# Altium footprint library PcbLib1.PcbLib: 44 footprints (part 1 of 3)
Each footprint in its own frame and in the unit in brackets; x right, y up, seen from the top. Pads: shape width x height; smd on the part's side, far side on the other; paste and mask are expansions set on the pad; w line width, h text height; cw(c..) or ccw(c..) is an arc to the next point about the centre after c.
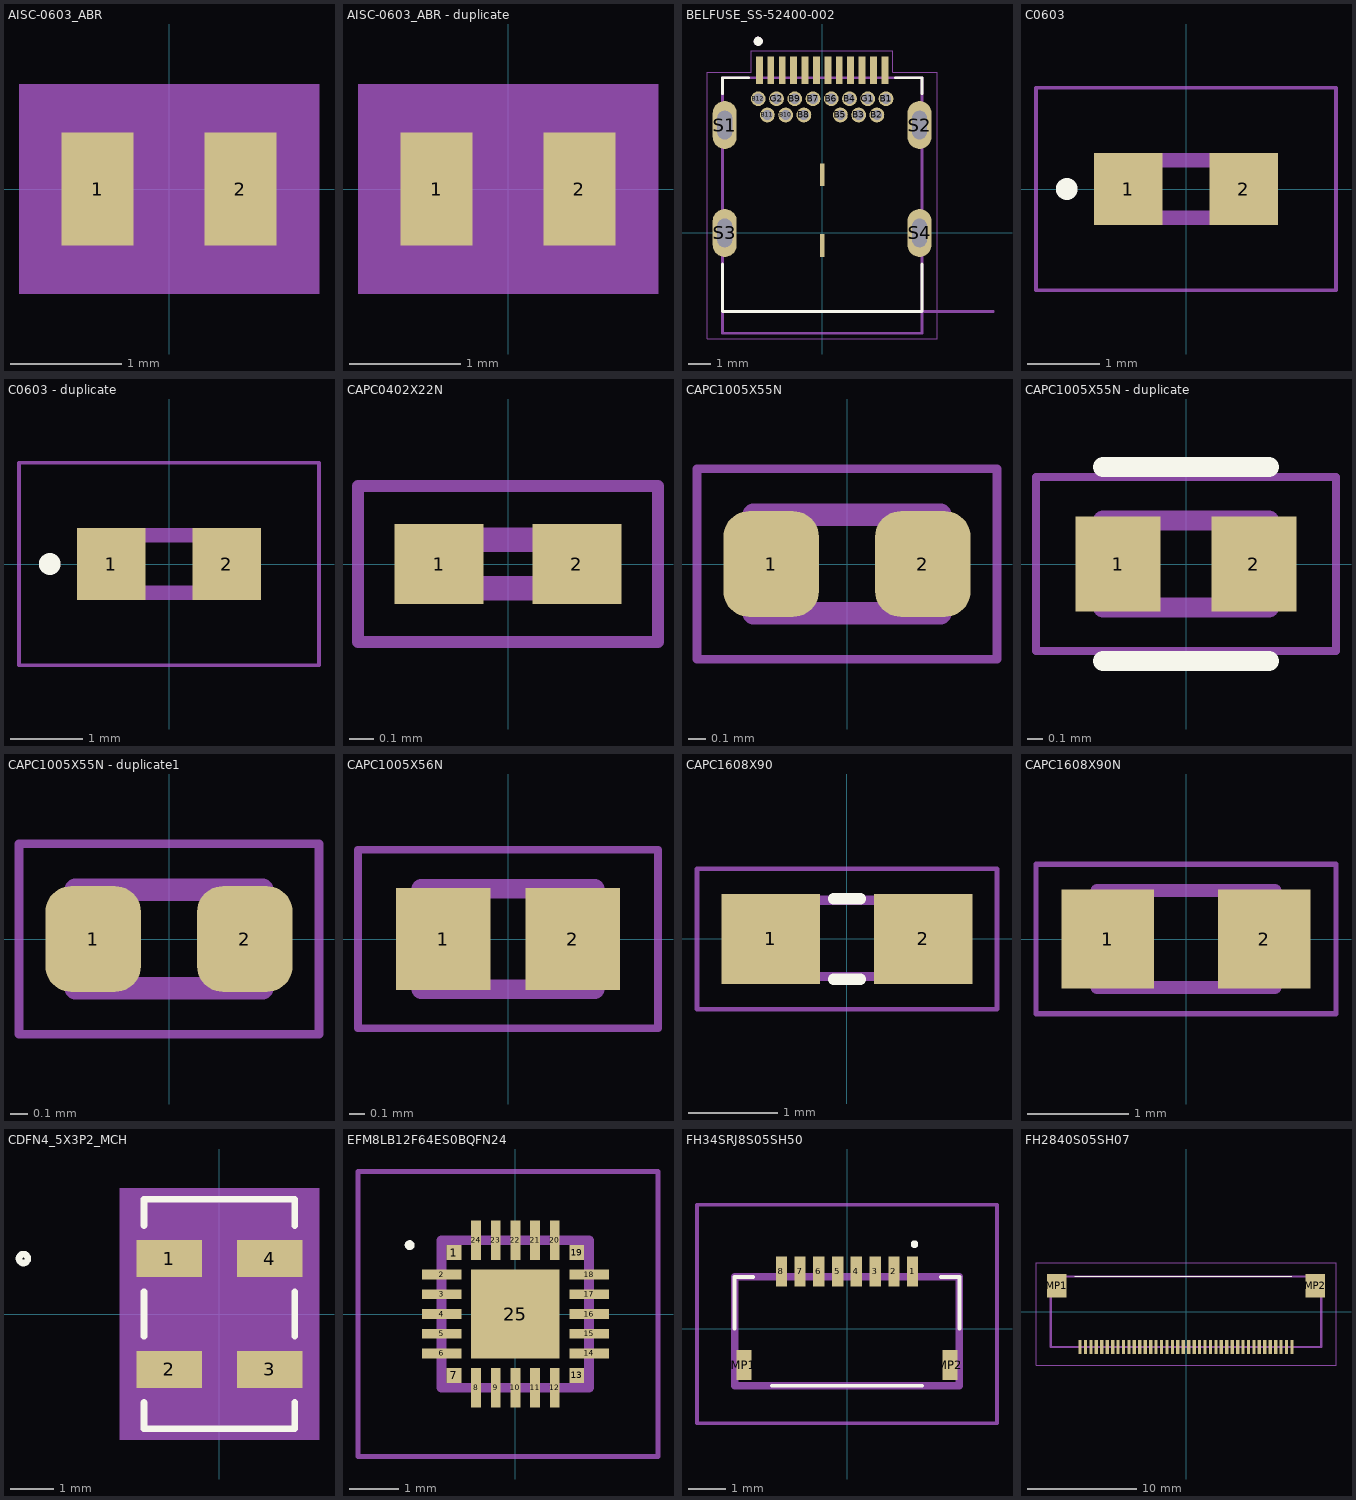
[diagram p0: the footprints below, top view; thin cyan lines are the x and y axes]

## AISC-0603_ABR [mil]
pads (2):
  rect 25.5x40 smd paste+0 mask+0: 1(-25.25,0) 2(25.25,0)
Top Assembly:
  region: 53,-37 -53,-37 -53,37 53,37
Mechanical 13:
  lines w1: -35.5,-22 -35.5,22 35.5,22 35.5,-22 -35.5,-22
Mechanical 15:
  region: -48,-30 -48,30 -32.5,32 32.5,32 48,30 48,-30 32.5,-32 -32.5,-32
  lines w6: -48,-30 -32.5,-32 32.5,-32 48,-30 48,30 32.5,32 -32.5,32 -48,30 -48,-30
3D body "AISC-0603_ABR.step": height 52.01, standoff 0, extent -47.48,-22.01 47.48,22.01

## AISC-0603_ABR - duplicate [mil]
pads (2):
  rect 25.5x40 smd paste+0 mask+0: 1(-25.25,0) 2(25.25,0)
Top Assembly:
  region: 53,-37 -53,-37 -53,37 53,37
Mechanical 13:
  lines w1: -35.5,-22 35.5,-22 35.5,22 -35.5,22 -35.5,-22
Mechanical 15:
  region: -48,-30 -48,30 -32.5,32 32.5,32 48,30 48,-30 32.5,-32 -32.5,-32
  lines w6: -48,-30 -48,30 -32.5,32 32.5,32 48,30 48,-30 32.5,-32 -32.5,-32 -48,-30
3D body "AISC-0603_ABR.step": height 52.01, standoff 0, extent -47.48,-22.01 47.48,22.01

## BELFUSE_SS-52400-002 [mm]
pads (32):
  rect 0.3x1.2 smd: A1(-2.75,7.13) A2(-2.25,7.13) A3(-1.75,7.13) A4(-1.25,7.13) A5(-0.75,7.13) A6(-0.25,7.13) A7(0.25,7.13) A8(0.75,7.13) A9(1.25,7.13) A10(1.75,7.13) A11(2.25,7.13) A12(2.75,7.13)
  round 0.65 hole 0.45: B1(2.8,5.88) B2(2.4,5.17) B3(1.6,5.17) B4(1.2,5.88) B5(0.8,5.17) B6(0.4,5.88) B7(-0.4,5.88) B8(-0.8,5.17) B9(-1.2,5.88) B10(-1.6,5.17) B11(-2.4,5.17) B12(-2.8,5.88) G1(2,5.88) G2(-2,5.88)
  rect 0.2x1 smd: G3(0,2.55) G4(0,-0.55)
  oval 1.05x2.1 hole 0.65 slot 1.25 at 90 deg: S1(-4.27,4.73) S2(4.27,4.73) S3(-4.27,0) S4(4.27,0)
Top Overlay:
  circle w0.2: c-2.8,8.4 r0.1
  lines w0.127: -4.37,-1.37 -4.37,-3.45 4.37,-3.45 4.37,-1.37 ; -4.37,6.1 -4.37,6.8 -3.22,6.8 ; 3.22,6.8 4.37,6.8 4.37,6.1
Mechanical 13:
  circle w0.2: c-2.8,8.4 r0.1
  lines w0.127: 7.5,-3.45 -4.37,-3.45 ; -4.37,-3.45 -4.37,6.8 4.37,6.8 4.37,-4.4 -4.37,-4.4 -4.37,-3.45
  text "PCB EDGE" at 5.3,-3.3 h0.3
Mechanical 15:
  lines w0.05: -5.045,-4.65 5.045,-4.65 5.045,7.05 3.1,7.05 3.1,7.98 -3.1,7.98 -3.1,7.05 -5.045,7.05 -5.045,-4.65
3D body "step_temp.STEP": height 2.96, standoff -1.5, extent -4.37,-4.518 4.37,7.312

## C0603 [mm]
pads (2):
  rect 0.95x1 smd: 1(-0.8,0) 2(0.8,0)
Top Overlay:
  circle w0.2: c-1.65,0 r0.05
Mechanical 15:
  lines w0.2: -0.8,-0.4 0.8,-0.4 0.8,0.4 -0.8,0.4 -0.8,-0.4
Mechanical 20:
  lines w0.05: -2.075,-1.4 2.075,-1.4 2.075,1.4 -2.075,1.4 -2.075,-1.4
3D body "C0603C569C5GACTU.stp": height 0.94, standoff -0.01, extent -0.875,-0.425 0.875,0.445

## C0603 - duplicate [mm]
pads (2):
  rect 0.95x1 smd: 1(-0.8,0) 2(0.8,0)
Top Overlay:
  circle w0.2: c-1.65,0 r0.05
Mechanical 15:
  lines w0.2: -0.8,-0.4 -0.8,0.4 0.8,0.4 0.8,-0.4 -0.8,-0.4
Mechanical 20:
  lines w0.05: -2.075,-1.4 -2.075,1.4 2.075,1.4 2.075,-1.4 -2.075,-1.4
3D body "C0603C569C5GACTU.stp": height 0.94, standoff -0.01, extent -0.85,-0.42 0.9,0.45

## CAPC0402X22N [mm]
pads (2):
  rect 0.365x0.33 smd: 1(-0.282,0) 2(0.282,0)
Mechanical 15:
  lines w0.1: -0.2,-0.1 -0.2,0.1 0.2,0.1 0.2,-0.1 -0.2,-0.1
Mechanical 20:
  lines w0.05: -0.615,-0.32 -0.615,0.32 0.615,0.32 0.615,-0.32 -0.615,-0.32
3D body "GRM0225C1C100JA03L.stp": height 0.22, standoff 0, extent -0.2,-0.1 0.2,0.1

## CAPC1005X55N [mm]
pads (2):
  rrect53% 0.54x0.6 smd: 1(-0.43,0) 2(0.43,0)
Mechanical 13:
  lines w0.127: -0.53,-0.28 -0.53,0.28 0.53,0.28 0.53,-0.28 -0.53,-0.28
Mechanical 15:
  lines w0.05: -0.85,-0.54 -0.85,0.54 0.85,0.54 0.85,-0.54 -0.85,-0.54
3D body "IND0402_24N_PUL.step": height 0.61, standoff 0, extent -0.572,-0.355 0.622,0.305

## CAPC1005X55N - duplicate [mm]
pads (2):
  rect 0.54x0.6 smd: 1(-0.43,0) 2(0.43,0)
Top Overlay:
  lines w0.127: -0.525,-0.615 0.525,-0.615 ; -0.525,0.615 0.525,0.615
Mechanical 13:
  lines w0.127: -0.525,-0.275 -0.525,0.275 0.525,0.275 0.525,-0.275 -0.525,-0.275
Mechanical 15:
  lines w0.05: -0.95,-0.55 -0.95,0.55 0.95,0.55 0.95,-0.55 -0.95,-0.55

## CAPC1005X55N - duplicate1 [mm]
pads (2):
  rrect53% 0.54x0.6 smd: 1(-0.43,0) 2(0.43,0)
Mechanical 13:
  lines w0.127: -0.53,-0.28 -0.53,0.28 0.53,0.28 0.53,-0.28 -0.53,-0.28
Mechanical 15:
  lines w0.05: -0.85,-0.54 -0.85,0.54 0.85,0.54 0.85,-0.54 -0.85,-0.54

## CAPC1005X56N [mm]
pads (2):
  rect 0.62x0.67 smd: 1(-0.425,0) 2(0.425,0)
Mechanical 13:
  lines w0.127: -0.57,-0.33 0.57,-0.33 0.57,0.33 -0.57,0.33 -0.57,-0.33
Mechanical 15:
  lines w0.05: -0.985,-0.585 0.985,-0.585 0.985,0.585 -0.985,0.585 -0.985,-0.585
3D body "04026D105KAT2A.STEP": height 0.5, standoff 0, extent -0.5,-0.285 0.5,0.275

## CAPC1608X90 [mm]
pads (2):
  rect 1.1x1 smd: 1(-0.85,0) 2(0.85,0)
Top Overlay:
  lines w0.127: -0.15,-0.45 0.15,-0.45 ; -0.15,0.45 0.15,0.45
Mechanical 13:
  region: 0.83,-0.471 0.331,-0.471 0.331,0.48 0.83,0.48
  region: -0.338,-0.47 -0.839,-0.47 -0.839,0.48 -0.338,0.48
  lines w0.102: -0.356,-0.419 0.356,-0.419 ; -0.356,0.432 0.356,0.432
Mechanical 15:
  lines w0.051: -1.673,-0.783 -1.673,0.783 1.673,0.783 1.673,-0.783 -1.673,-0.783
3D body "C0603C682K5RACTU.STEP": height 0.81, standoff 0.01, extent -0.8,-0.438 0.8,0.432

## CAPC1608X90N [mm]
pads (2):
  rect 0.92x0.98 smd: 1(-0.775,0) 2(0.775,0)
Mechanical 13:
  lines w0.127: -0.88,-0.48 -0.88,0.48 0.88,0.48 0.88,-0.48 -0.88,-0.48
Mechanical 15:
  lines w0.05: -1.485,-0.74 -1.485,0.74 1.485,0.74 1.485,-0.74 -1.485,-0.74
3D body "step_temp.STEP": height 0.9, standoff 0, extent -0.8,-0.405 0.8,0.405

## CDFN4_5X3P2_MCH [mm]
pads (4):
  rect 1.5x0.85 smd paste+0 mask+0: 1(-1.15,1.27) 2(-1.15,-1.27) 3(1.15,-1.27) 4(1.15,1.27)
Top Overlay:
  circle w0.152: c-4.491,1.27 r0.102
  lines w0.152: -1.727,-2.028 -1.727,-2.627 1.727,-2.627 1.727,-2.028 ; -1.727,-0.512 -1.727,0.512 ; -1.727,2.028 -1.727,2.627 1.727,2.627 1.727,2.028 ; 1.727,-0.512 1.727,0.512
Top Assembly:
  region: 2.281,-2.881 -2.281,-2.881 -2.281,2.881 2.281,2.881
Mechanical 13:
  circle w0: c-0.4,1.27 r0.076
  lines w0: -0.305,2.5 ccw(c0,2.5) 0.305,2.5
  lines w0.025: -1.6,-2.5 1.6,-2.5 1.6,2.5 -1.6,2.5 -1.6,-2.5
Mechanical 15:
  region: -1.854,-1.949 -2.154,-1.949 -2.154,1.949 -1.854,1.949 -1.854,2.754 1.854,2.754 1.854,1.949 2.154,1.949 2.154,-1.949 1.854,-1.949 1.854,-2.754 -1.854,-2.754
  lines w0.152: -2.154,-1.949 -2.154,1.949 -1.854,1.949 -1.854,2.754 1.854,2.754 1.854,1.949 2.154,1.949 2.154,-1.949 1.854,-1.949 1.854,-2.754 -1.854,-2.754 -1.854,-1.949 -2.154,-1.949
3D body "CDFN4_5X3P2_MCH.step": height 0.85, standoff 0, extent -1.6,-2.5 1.6,2.5

## EFM8LB12F64ES0BQFN24 [mm]
pads (25):
  rect 0.3x0.3 smd: 1(-1.25,1.25) 7(-1.25,-1.25) 13(1.25,-1.25) 19(1.25,1.25)
  rect 0.8x0.2 smd: 2(-1.5,0.8) 3(-1.5,0.4) 4(-1.5,0) 5(-1.5,-0.4) 6(-1.5,-0.8) 14(1.5,-0.8) 15(1.5,-0.4) 16(1.5,0) 17(1.5,0.4) 18(1.5,0.8)
  rect 0.2x0.8 smd: 8(-0.8,-1.5) 9(-0.4,-1.5) 10(0,-1.5) 11(0.4,-1.5) 12(0.8,-1.5) 20(0.8,1.5) 21(0.4,1.5) 22(0,1.5) 23(-0.4,1.5) 24(-0.8,1.5)
  rect 1.8x1.8 smd: 25(0,0)
Top Overlay:
  lines w0.1: -2.2,1.4 ccw(c-2.15,1.4) -2.1,1.4 ; -2.2,1.4 cw(c-2.15,1.4) -2.1,1.4 ; -2.2,1.4 ccw(c-2.15,1.4) -2.1,1.4
Mechanical 15:
  lines w0.2: -1.5,-1.5 1.5,-1.5 1.5,1.5 -1.5,1.5 -1.5,-1.5
Mechanical 20:
  lines w0.1: -3.2,-2.9 2.9,-2.9 2.9,2.9 -3.2,2.9 -3.2,-2.9
3D body "EFM8LB12F64E-C-QFN24.stp": height 1, standoff 0, extent -1.5,-1.5 1.5,1.5

## FH34SRJ8S05SH50 [mm]
pads (10):
  rect 0.3x0.8 smd: 1(1.75,1.525) 2(1.25,1.525) 3(0.75,1.525) 4(0.25,1.525) 5(-0.25,1.525) 6(-0.75,1.525) 7(-1.25,1.525) 8(-1.75,1.525)
  rect 0.4x0.8 smd: MP1(-2.75,-0.975) MP2(2.75,-0.975)
Top Overlay:
  lines w0.1: -3,0 -3,1.375 -2.5,1.375 ; -2,-1.525 2,-1.525 ; 2.5,1.375 3,1.375 3,0 ; 1.8,2.2 ccw(c1.8,2.25) 1.8,2.3 ccw(c1.8,2.25) 1.8,2.2
Mechanical 15:
  lines w0.2: -3,-1.525 3,-1.525 3,1.375 -3,1.375 -3,-1.525
Mechanical 20:
  lines w0.1: -4,-2.525 4,-2.525 4,3.3 -4,3.3 -4,-2.525
3D body "FH34SRJ-8S-0.5SH_50_.stp": height 1.2, standoff 0, extent -3,-1.525 3,1.895

## FH2840S05SH07 [mm]
pads (42):
  rect 0.3x1.3 smd: 1(9.75,-3.25) 2(9.25,-3.25) 3(8.75,-3.25) 4(8.25,-3.25) 5(7.75,-3.25) 6(7.25,-3.25) 7(6.75,-3.25) 8(6.25,-3.25) 9(5.75,-3.25) 10(5.25,-3.25) 11(4.75,-3.25) 12(4.25,-3.25) 13(3.75,-3.25) 14(3.25,-3.25) 15(2.75,-3.25) 16(2.25,-3.25) 17(1.75,-3.25) 18(1.25,-3.25) 19(0.75,-3.25) 20(0.25,-3.25) 21(-0.25,-3.25) 22(-0.75,-3.25) 23(-1.25,-3.25) 24(-1.75,-3.25) 25(-2.25,-3.25) 26(-2.75,-3.25) 27(-3.25,-3.25) 28(-3.75,-3.25) 29(-4.25,-3.25) 30(-4.75,-3.25) 31(-5.25,-3.25) 32(-5.75,-3.25) 33(-6.25,-3.25) 34(-6.75,-3.25) 35(-7.25,-3.25) 36(-7.75,-3.25) 37(-8.25,-3.25) 38(-8.75,-3.25) 39(-9.25,-3.25) 40(-9.75,-3.25)
  rect 1.8x2.2 smd: MP1(-11.9,2.4) MP2(11.9,2.4)
Top Overlay:
  lines w0.1: -10.25,3.25 9.75,3.25
Mechanical 15:
  lines w0.2: -12.45,-3.25 -12.45,3.25 12.45,3.25 12.45,-3.25 -12.45,-3.25
Mechanical 20:
  lines w0.1: -13.8,-4.9 -13.8,4.5 13.8,4.5 13.8,-4.9 -13.8,-4.9
3D body "FH28-40S-0.5SH_07_.stp": height 5.8, standoff -4.65, extent -10,-3.376 10,3.376